# EAGLE library part USB2514BI (library bleed)
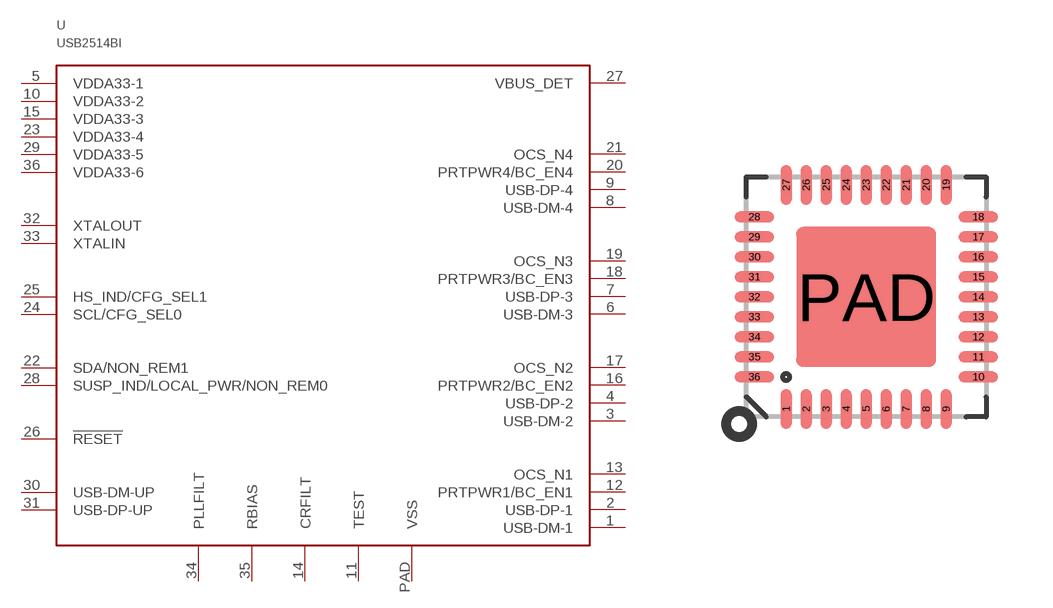
[diagram p28: symbol with the pads of QFN-36; footprint QFN-36]

Designator prefix U

## USB2514BI  [QFN-36]
1  USB-DM-1
2  USB-DP-1
3  USB-DM-2
4  USB-DP-2
5  VDDA33-1
6  USB-DM-3
7  USB-DP-3
8  USB-DM-4
9  USB-DP-4
10  VDDA33-2
11  TEST
12  PRTPWR1/BC_EN1
13  OCS_N1
14  CRFILT
15  VDDA33-3
16  PRTPWR2/BC_EN2
17  OCS_N2
18  PRTPWR3/BC_EN3
19  OCS_N3
20  PRTPWR4/BC_EN4
21  OCS_N4
22  SDA/NON_REM1
23  VDDA33-4
24  SCL/CFG_SEL0
25  HS_IND/CFG_SEL1
26  !RESET
27  VBUS_DET
28  SUSP_IND/LOCAL_PWR/NON_REM0
29  VDDA33-5
30  USB-DM-UP
31  USB-DP-UP
32  XTALOUT
33  XTALIN
34  PLLFILT
35  RBIAS
36  VDDA33-6
PAD  VSS

## Footprint QFN-36 (pad centres in mm)
smd 0.28 x 1: 1 -2,-2.8; 2 -1.5,-2.8; 3 -1,-2.8; 4 -0.5,-2.8; 5 0,-2.8; 6 0.5,-2.8; 7 1,-2.8; 8 1.5,-2.8; 9 2,-2.8; 19 2,2.8; 20 1.5,2.8; 21 1,2.8; 22 0.5,2.8; 23 0,2.8; 24 -0.5,2.8; 25 -1,2.8; 26 -1.5,2.8; 27 -2,2.8
smd 1 x 0.28: 10 2.8,-2; 11 2.8,-1.5; 12 2.8,-1; 13 2.8,-0.5; 14 2.8,0; 15 2.8,0.5; 16 2.8,1; 17 2.8,1.5; 18 2.8,2; 28 -2.8,2; 29 -2.8,1.5; 30 -2.8,1; 31 -2.8,0.5; 32 -2.8,0; 33 -2.8,-0.5; 34 -2.8,-1; 35 -2.8,-1.5; 36 -2.8,-2
smd 3.5 x 3.5: PAD 0,0